# Altium footprint library PcbLib1.PcbLib: 98 footprints (part 3 of 7)
Each footprint in its own frame and in the unit in brackets; x right, y up, seen from the top. Pads: shape width x height; smd on the part's side, far side on the other; paste and mask are expansions set on the pad; w line width, h text height; cw(c..) or ccw(c..) is an arc to the next point about the centre after c.
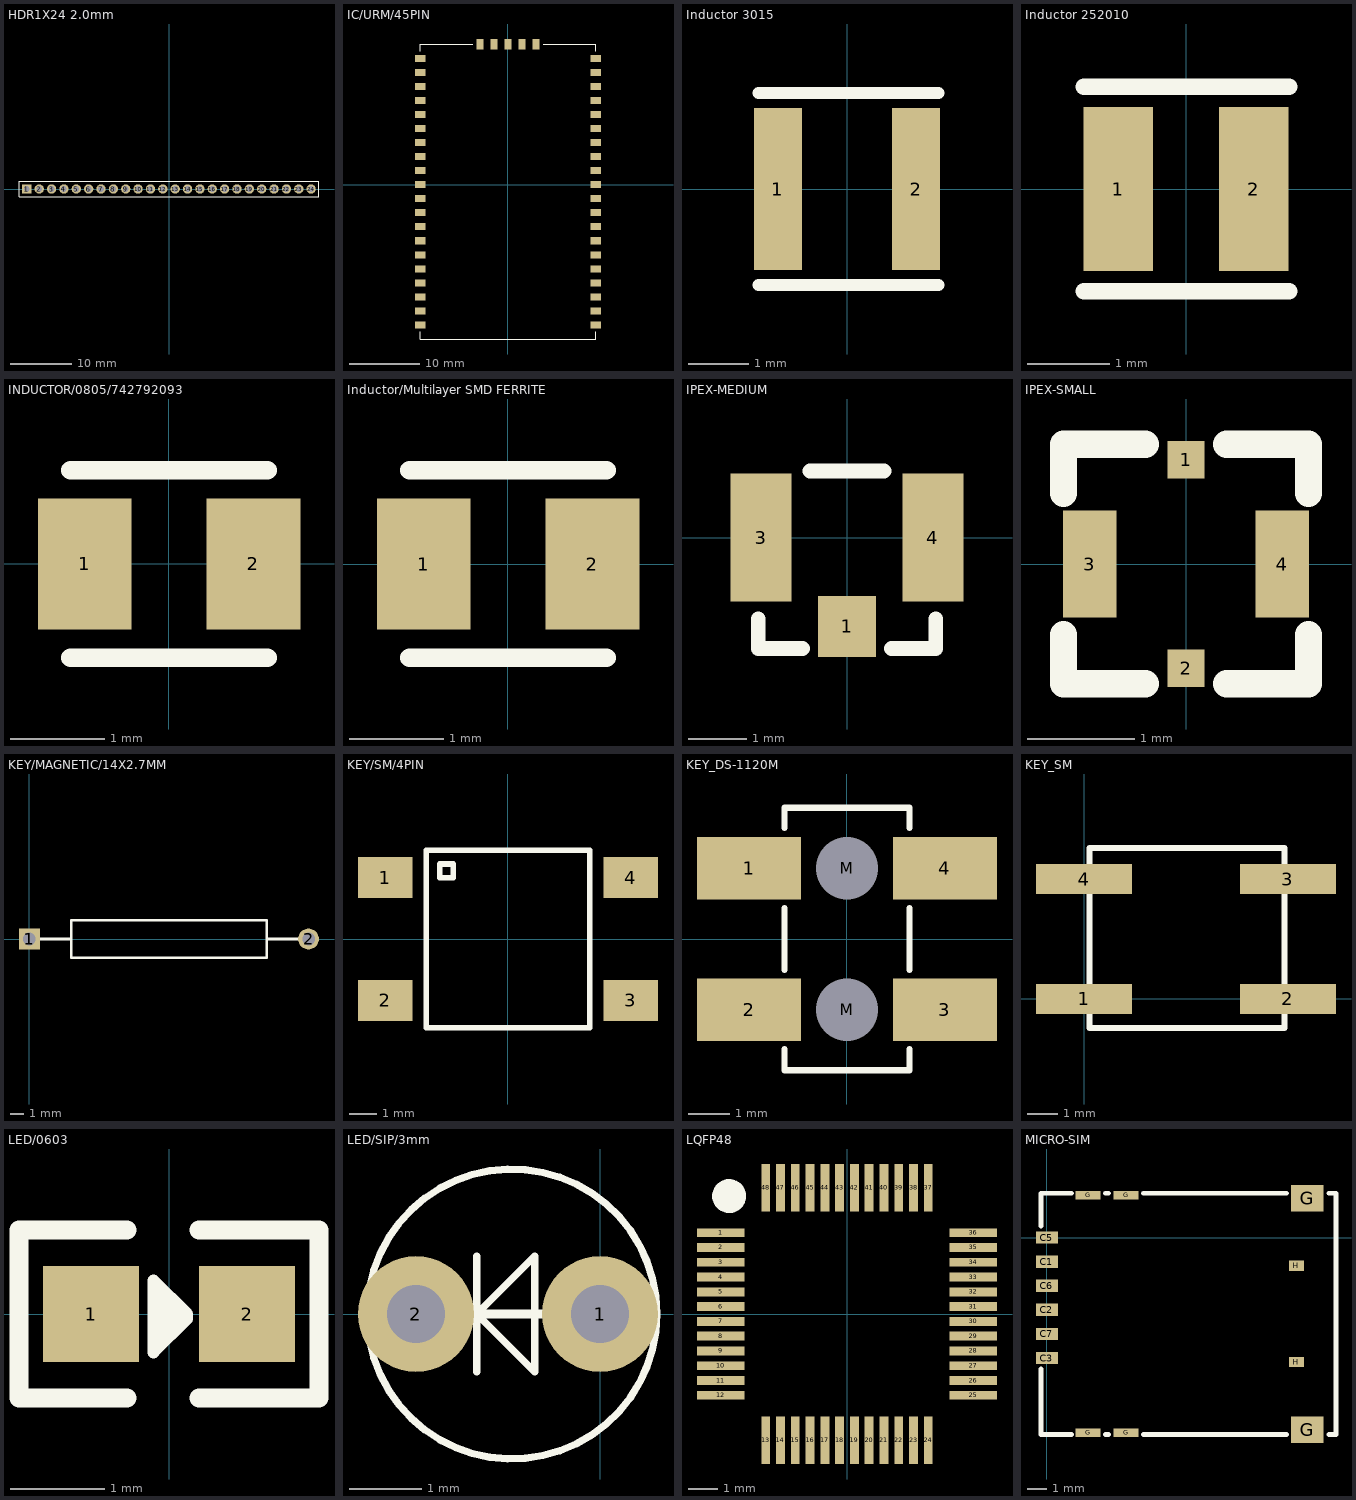
[diagram p2: the footprints below, top view; thin cyan lines are the x and y axes]

## HDR1X24 2.0mm [mm]
pads (24):
  rect 1.5x1.5 hole 0.9: 1(-23,0)
  round 1.5 hole 0.9: 2(-21,0) 3(-19,0) 4(-17,0) 5(-15,0) 6(-13,0) 7(-11,0) 8(-9,0) 9(-7,0) 10(-5,0) 11(-3,0) 12(-1,0) 13(1,0) 14(3,0) 15(5,0) 16(7,0) 17(9,0) 18(11,0) 19(13,0) 20(15,0) 21(17,0) 22(19,0) 23(21,0) 24(23,0)
Top Overlay:
  lines w0.127: -24.27,-1.27 -24.27,1.27 24.27,1.27 24.27,-1.261 -24.261,-1.261
3D body: height 3, standoff -8.54, extent 15.73,-1.27 18.27,1.27
3D body: height 3, standoff -8.54, extent 17.73,-1.27 20.27,1.27
3D body: height 3, standoff -8.54, extent 19.73,-1.27 22.27,1.27
3D body: height 3, standoff -8.54, extent 21.73,-1.27 24.27,1.27
3D body: height 3, standoff -8.54, extent 7.73,-1.27 10.27,1.27
3D body: height 3, standoff -8.54, extent 9.73,-1.27 12.27,1.27
3D body: height 3, standoff -8.54, extent 11.73,-1.27 14.27,1.27
3D body: height 3, standoff -8.54, extent 13.73,-1.27 16.27,1.27
3D body: height 3, standoff -8.54, extent -0.27,-1.27 2.27,1.27
3D body: height 3, standoff -8.54, extent 1.73,-1.27 4.27,1.27
3D body: height 3, standoff -8.54, extent 3.73,-1.27 6.27,1.27
3D body: height 3, standoff -8.54, extent 5.73,-1.27 8.27,1.27
3D body: height 3, standoff -8.54, extent -8.27,-1.27 -5.73,1.27
3D body: height 3, standoff -8.54, extent -6.27,-1.27 -3.73,1.27
3D body: height 3, standoff -8.54, extent -4.27,-1.27 -1.73,1.27
3D body: height 3, standoff -8.54, extent -2.27,-1.27 0.27,1.27
3D body: height 3, standoff -8.54, extent -16.27,-1.27 -13.73,1.27
3D body: height 3, standoff -8.54, extent -14.27,-1.27 -11.73,1.27
3D body: height 3, standoff -8.54, extent -12.27,-1.27 -9.73,1.27
3D body: height 3, standoff -8.54, extent -10.27,-1.27 -7.73,1.27
3D body: height 3, standoff -8.54, extent -18.27,-1.27 -15.73,1.27
3D body: height 3, standoff -8.54, extent -20.27,-1.27 -17.73,1.27
3D body: height 3, standoff -8.54, extent -22.27,-1.27 -19.73,1.27
3D body: height 3, standoff -8.54, extent -24.27,-1.27 -21.73,1.27

## IC/URM/45PIN [mm]
pads (45):
  rect 1.5x1 smd: 1(-12.5,18) 2(-12.5,16) 3(-12.5,14) 4(-12.5,12) 5(-12.5,10) 6(-12.5,8) 7(-12.5,6) 8(-12.5,4) 9(-12.5,2) 10(-12.5,0) 11(-12.5,-2) 12(-12.5,-4) 13(-12.5,-6) 14(-12.5,-8) 15(-12.5,-10) 16(-12.5,-12) 17(-12.5,-14) 18(-12.5,-16) 19(-12.5,-18) 20(-12.5,-20) 21(12.5,-20) 22(12.5,-18) 23(12.5,-16) 24(12.5,-14) 25(12.5,-12) 26(12.5,-10) 27(12.5,-8) 28(12.5,-6) 29(12.5,-4) 30(12.5,-2) 31(12.5,0) 32(12.5,2) 33(12.5,4) 34(12.5,6) 35(12.5,8) 36(12.5,10) 37(12.5,12) 38(12.5,14) 39(12.5,16) 40(12.5,18)
  rect 1x1.5 smd: 41(-4,20) 42(-2,20) 43(0,20) 44(2,20) 45(4,20)
Top Overlay:
  lines w0.127: -12.5,-21 -12.5,-22 12.5,-22 12.5,-21 ; -12.5,19 -12.5,20 -5,20 ; 5,20 12.5,20 12.5,19

## Inductor 3015 [mm]
pads (2):
  rect 0.8x2.7 smd: 1(-1.15,0) 2(1.15,0)
Top Overlay:
  lines w0.2: -1.473,-1.6 1.527,-1.6 ; -1.473,1.6 1.527,1.6

## Inductor 252010 [mm]
pads (2):
  rect 0.85x2 smd: 1(-0.825,0) 2(0.825,0)
Top Overlay:
  lines w0.2: -1.245,-1.245 1.255,-1.245 ; -1.245,1.245 1.255,1.245

## INDUCTOR/0805/742792093 [mm]
pads (2):
  rect 1x1.4 smd paste+0 mask+0.1: 1(-0.9,0) 2(0.9,0)
Top Overlay:
  lines w0.2: -1.05,-1 1.05,-1 ; -1.05,1 1.05,1

## Inductor/Multilayer SMD FERRITE [mm]
pads (2):
  rect 1x1.4 smd paste+0 mask+0.1: 1(-0.9,0) 2(0.9,0)
Top Overlay:
  lines w0.2: -1.05,-1 1.05,-1 ; -1.05,1 1.05,1

## IPEX-MEDIUM [mm]
pads (3):
  rect 1x1.05 smd: 1(0,-1.525)
  rect 1.05x2.2 smd: 3(-1.475,0) 4(1.475,0)
Top Overlay:
  lines w0.254: -1.524,-1.397 -1.524,-1.905 -0.762,-1.905 ; -0.635,1.143 0.635,1.143 ; 0.762,-1.905 1.524,-1.905 1.524,-1.397
3D body: height 1.25, standoff -0.01, extent -1.475,-1.55 1.525,1.55

## IPEX-SMALL [mm]
pads (4):
  rect 0.35x0.35 smd: 1(0,0.975) 2(0,-0.975)
  rect 0.5x1 smd: 3(-0.9,0) 4(0.9,0)
Top Overlay:
  lines w0.254: -1.143,-0.66 -1.143,-1.118 -0.381,-1.118 ; -1.143,0.66 -1.143,1.118 -0.381,1.118 ; 0.381,-1.118 1.143,-1.118 1.143,-0.66 ; 0.381,1.118 1.143,1.118 1.143,0.66

## KEY/MAGNETIC/14X2.7MM [mm]
pads (2):
  rect 1.5x1.5 hole 0.9: 1(0,0)
  round 1.5 hole 0.9: 2(20,0)
Top Overlay:
  lines w0.2: 0,0 3,0 ; 20,0 17,0 ; 3,0 3,-1.35 17,-1.35 17,0 ; 3,0 3,1.35 17,1.35 17,0

## KEY/SM/4PIN [mm]
pads (4):
  rect 2x1.5 smd: 1(-4.5,2.25) 2(-4.5,-2.25) 3(4.5,-2.25) 4(4.5,2.25)
Top Overlay:
  lines w0.203: -3,-3.25 -3,3.25 3,3.25 3,-3.25 -3,-3.25 ; -2.5,2.25 -2,2.25 -2,2.75 -2.5,2.75 -2.5,2.25

## KEY_DS-1120M [mm]
pads (6):
  rect 2.5x1.5 smd: 1(-2.35,1.7) 2(-2.35,-1.7) 3(2.35,-1.7) 4(2.35,1.7)
  round 0.5 hole 1.5 unplated: M(0,-1.7) M(0,1.7)
Top Overlay:
  lines w0.152: -1.5,-2.643 -1.5,-3.15 1.5,-3.15 1.5,-2.643 ; -1.5,2.668 -1.5,3.15 1.5,3.15 1.5,2.668 ; -1.499,-0.737 -1.499,0.737 ; 1.499,-0.737 1.499,0.737
3D body: height 10, standoff 0, extent -1.5,-3.15 1.5,3.15

## KEY_SM [mm]
pads (4):
  rect 3.2x1 smd: 1(0,0) 2(6.8,0) 3(6.8,4) 4(0,4)
Top Overlay:
  lines w0.203: 0.178,-0.965 6.678,-0.965 6.678,5.035 0.178,5.035 0.178,-0.965
3D body: height 4.44, standoff -0.1, extent -1.618,-0.991 8.382,5.009

## LED/0603 [mil]
pads (2):
  rect 40x40 smd: 1(-32.5,0) 2(32.5,0)
Top Overlay:
  lines w5: -3.5,-8 -3.5,11 -6.5,14 ; -0.5,-5 -0.5,3 ; -0.5,-3 2.5,0 7.5,0 ; -6.5,14 -6.5,-16 7.5,-2 7.5,0 ; -6.5,14 7.5,0
  lines w8: -17.5,-35 -62.5,-35 -62.5,35 -17.5,35 ; 12.5,-35 62.5,-35 62.5,35 12.5,35

## LED/SIP/3mm [mm]
pads (2):
  round 1.6 hole 0.8: 1(0,0) 2(-2.54,0)
Top Overlay:
  circle w0.1: c-1.216,0 r2
  lines w0.1: -1.7,-0.8 -1.7,0 ; -1.7,0.8 -1.7,0 ; -1.7,0 -0.9,0.8 -0.9,-0.8 -1.7,0
  lines w0.127: -1.7,0 -0.686,0

## LQFP48 [mm]
pads (48):
  rect 1.6x0.3 smd paste+0 mask+0.04: 1(-4.275,2.75) 2(-4.275,2.25) 3(-4.275,1.75) 4(-4.275,1.25) 5(-4.275,0.75) 6(-4.275,0.25) 7(-4.275,-0.25) 8(-4.275,-0.75) 9(-4.275,-1.25) 10(-4.275,-1.75) 11(-4.275,-2.25) 12(-4.275,-2.75) 25(4.275,-2.75) 26(4.275,-2.25) 27(4.275,-1.75) 28(4.275,-1.25) 29(4.275,-0.75) 30(4.275,-0.25) 31(4.275,0.25) 32(4.275,0.75) 33(4.275,1.25) 34(4.275,1.75) 35(4.275,2.25) 36(4.275,2.75)
  rect 0.3x1.6 smd paste+0 mask+0.04: 13(-2.75,-4.275) 14(-2.25,-4.275) 15(-1.75,-4.275) 16(-1.25,-4.275) 17(-0.75,-4.275) 18(-0.25,-4.275) 19(0.25,-4.275) 20(0.75,-4.275) 21(1.25,-4.275) 22(1.75,-4.275) 23(2.25,-4.275) 24(2.75,-4.275) 37(2.75,4.275) 38(2.25,4.275) 39(1.75,4.275) 40(1.25,4.275) 41(0.75,4.275) 42(0.25,4.275) 43(-0.25,4.275) 44(-0.75,4.275) 45(-1.25,4.275) 46(-1.75,4.275) 47(-2.25,4.275) 48(-2.75,4.275)
Top Overlay:
  circle w0.6: c-3.988,3.988 r0.274

## MICRO-SIM [mm]
pads (14):
  rect 1.15x0.65 smd: C1(0,-1.27) C2(0,-3.81) C3(0,-6.35) C5(0,0) C6(0,-2.54) C7(0,-5.08)
  rect 1.3x0.45 smd: G(2.17,-10.295) G(2.17,2.235) G(4.17,-10.295) G(4.17,2.235)
  rect 1.7x1.4 smd: G(13.73,-10.135) G(13.73,2.075)
  rect 0.8x0.54 smd: H(13.15,-6.565) H(13.15,-1.485)
Top Overlay:
  lines w0.254: -0.305,-6.934 -0.305,-10.389 1.295,-10.389 ; -0.305,0.61 -0.305,2.337 1.295,2.337 ; 3.073,2.337 3.251,2.337 ; 3.086,-10.389 3.264,-10.389 ; 5.08,-10.389 12.624,-10.389 ; 5.08,2.337 12.624,2.337 ; 14.859,-10.389 15.24,-10.389 15.24,2.337 14.859,2.337